# Altium footprint library MotionClock.PcbLib: 19 footprints (part 2 of 2)
Each footprint in its own frame and in the unit in brackets; x right, y up, seen from the top. Pads: shape width x height; smd on the part's side, far side on the other; paste and mask are expansions set on the pad; w line width, h text height; cw(c..) or ccw(c..) is an arc to the next point about the centre after c.
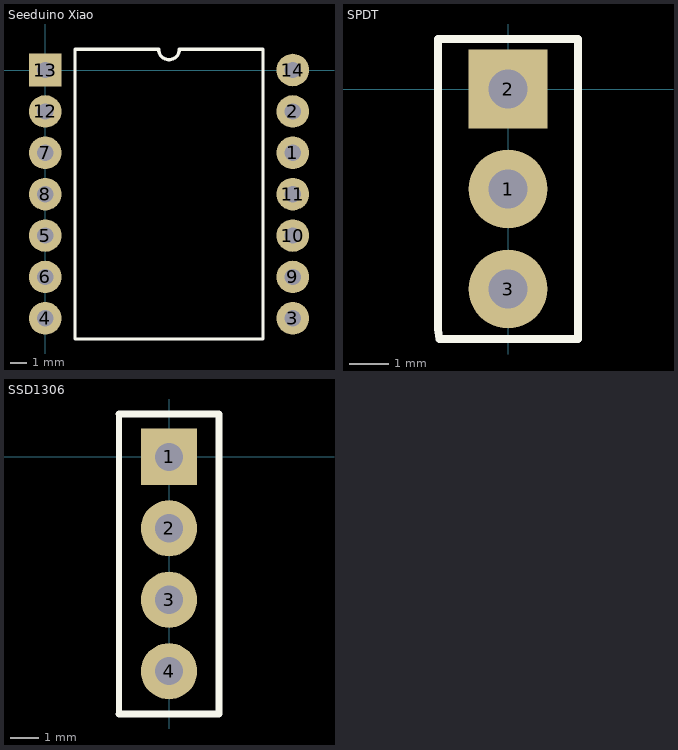
[diagram p1: the footprints below, top view; thin cyan lines are the x and y axes]

## Seeduino Xiao [mm]
pads (14):
  round 2 hole 1: 1(15.2,-5.08) 2(15.2,-2.54) 3(15.2,-15.24) 4(0,-15.24) 5(0,-10.16) 6(0,-12.7) 7(0,-5.08) 8(0,-7.62) 9(15.2,-12.7) 10(15.2,-10.16) 11(15.2,-7.62) 12(0,-2.54) 14(15.2,0)
  rect 2x2 hole 1: 13(0,0)
Top Overlay:
  lines w0.2: 1.835,-16.51 13.365,-16.51 13.365,1.27 8.235,1.27 cw(c7.6,1.27) 6.965,1.27 1.835,1.27 1.835,-16.51

## SPDT [mm]
pads (3):
  round 2 hole 1: 1(0,-2.54) 3(0,-5.08)
  rect 2x2 hole 1: 2(0,0)
Top Overlay:
  lines w0.2: -1.778,-6.096 -1.778,1.27 1.778,1.27 1.778,-6.35 -1.744,-6.35 -1.778,-6.096

## SSD1306 [mm]
pads (4):
  rect 2x2 hole 1: 1(0,0)
  round 2 hole 1: 2(0,-2.54) 3(0,-5.08) 4(0,-7.62)
Top Overlay:
  lines w0.2: -1.778,-9.144 -1.778,1.524
  lines w0.254: -1.778,-9.144 1.778,-9.144 1.778,1.524 -1.778,1.524